# Altium schematic symbol library Schlib.Test.SchLib: 11 symbols
Pins are listed as number, name and electrical type; pins without a type are passive.

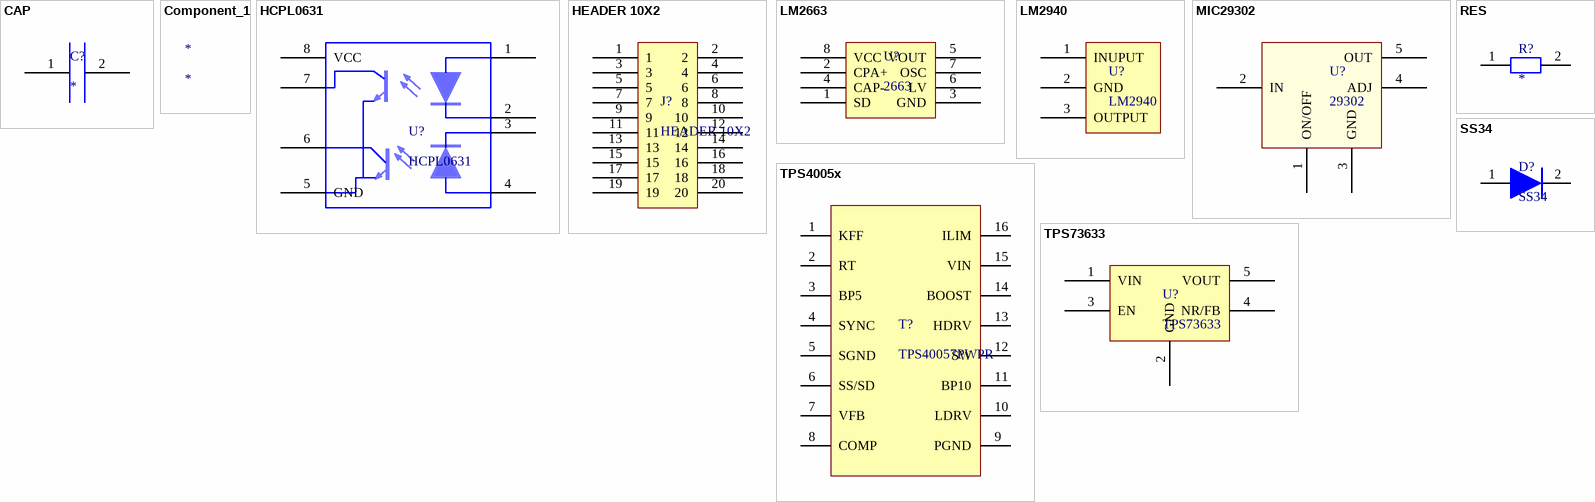
[diagram p0: symbols CAP to TPS73633]

## CAP
designator C?
pins: 1, 2

## Component_1
designator *

## HCPL0631
designator U?
pins: 1, 2, 3  3, 4, 5 GND, 6, 7, 8 VCC

## HEADER 10X2
designator J?
pins: 1, 2, 3, 4, 5, 6, 7, 8, 9, 10, 11, 12, 13, 14, 15, 16, 17, 18, 19, 20

## LM2663
designator U?, comment 2663
pins: 1 SD, 2 CPA+, 3 GND, 4 CAP-, 5 VOUT, 6 LV, 7 OSC, 8 VCC

## LM2940
designator U?
pins: 1 INUPUT, 2 GND, 3 OUTPUT

## MIC29302
designator U?, comment 29302
pins: 1 ON/OFF, 2 IN, 3 GND (power), 4 ADJ, 5 OUT

## RES
designator R?
footprint 0402R (Footprint not found)
pins: 1, 2

## SS34
designator D?
pins: 1, 2

## TPS4005x
designator T?, comment TPS40057PWPR
pins: 1 KFF, 2 RT, 3 BP5, 4 SYNC, 5 SGND, 6 SS/SD, 7 VFB, 8 COMP, 9 PGND, 10 LDRV, 11 BP10, 12 SW, 13 HDRV, 14 BOOST, 15 VIN, 16 ILIM

## TPS73633
designator U?
pins: 1 VIN, 2 GND (power), 3 EN, 4 NR/FB, 5 VOUT